# Altium schematic symbol library TSM-102-01-S-SH.SchLib: 1 symbol
Pins are listed as number, name and electrical type; pins without a type are passive.

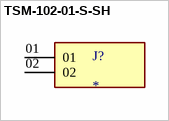
[diagram p0: symbol TSM-102-01-S-SH]

## TSM-102-01-S-SH
designator J?
MF: Samtec; MP: TSM-102-01-S-SH; Package: None; Price: None; Availability: Unavailable; Value: *
footprint SAMTEC_TSM-102-01-S-SH
pins: 01, 02